# Altium schematic symbol library ACS723LLCTR-40AU-T.SchLib: 1 symbol
Pins are listed as number, name and electrical type; pins without a type are passive.

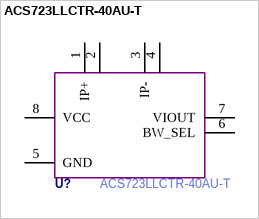
[diagram p0: symbol ACS723LLCTR-40AU-T]

## ACS723LLCTR-40AU-T
designator U?  Manufacturer Part Number: ACS723LLCTR-40AU-T  (hidden comment: *)
pins: 1 IP+, 2 IP+, 3 IP-, 4 IP-, 5 GND, 6 BW_SEL, 7 VIOUT, 8 VCC